# Altium footprint library Diodes.PcbLib: 13 footprints
Each footprint in its own frame and in the unit in brackets; x right, y up, seen from the top. Pads: shape width x height; smd on the part's side, far side on the other; paste and mask are expansions set on the pad; w line width, h text height; cw(c..) or ccw(c..) is an arc to the next point about the centre after c.
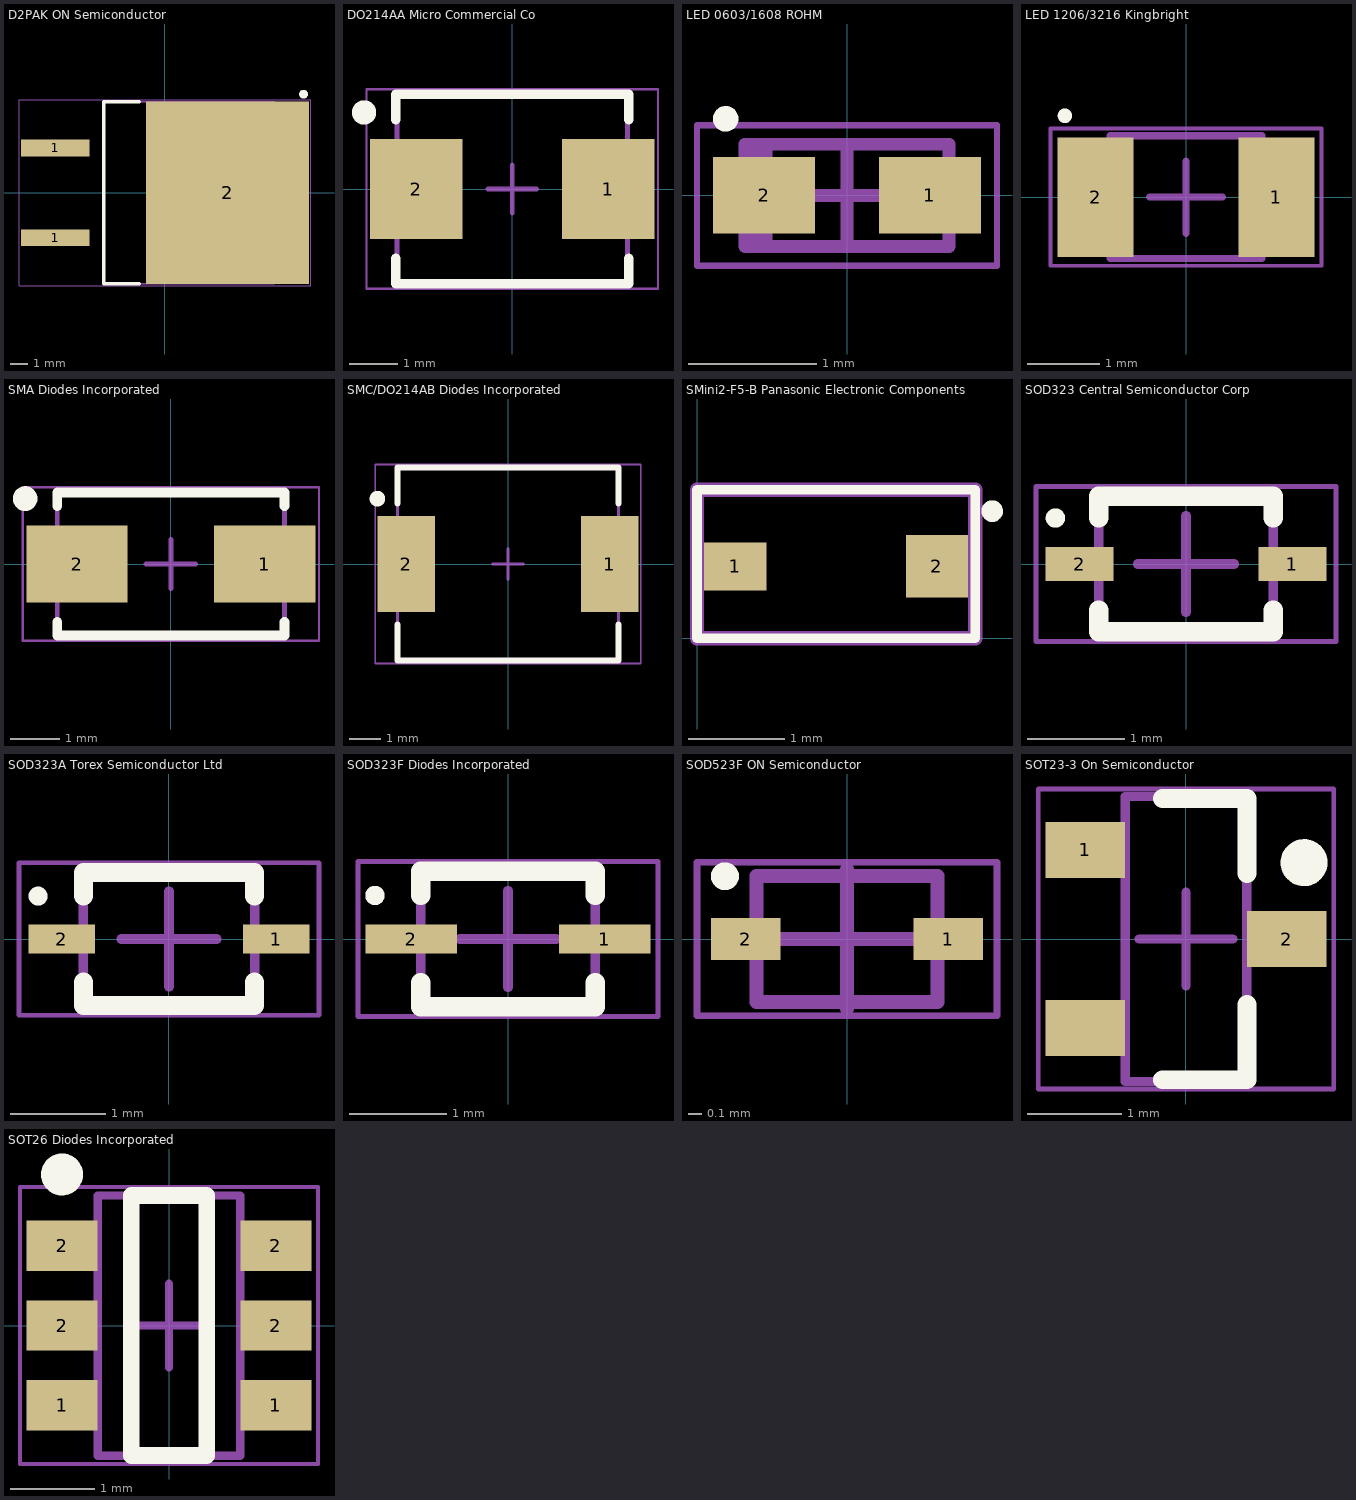
[diagram p0: the footprints below, top view; thin cyan lines are the x and y axes]

## D2PAK ON Semiconductor [mm] "D2-PAK, 3-Pads, Body 7.93x8.51mm (max), IPC High Density"
height 4.83
pads (3):
  rect 3.9x0.95 smd: 1(-6.2,-2.54) 1(-6.2,2.54)
  rect 9.2x10.35 smd: 2(3.55,0)
Top Overlay:
  circle w0.25: c7.85,5.575 r0.125
  lines w0.2: -1.45,-5.15 -3.45,-5.15 -3.45,5.15 -1.45,5.15
Mechanical 13:
  lines w0.1: -3.45,-5.15 6.2,-5.15 6.2,5.15 -3.45,5.15 -3.45,-5.15
Mechanical 15:
  lines w0.05: -8.25,-5.275 8.25,-5.275 8.25,5.275 -8.25,5.275 -8.25,-5.275
  lines w0.1: -0.5,0 0.5,0 ; 0,-0.5 0,0.5
  text "'.Designator'" at -8.025,-0.275 h1
3D body: height 4.83, standoff 0, extent -3.45,-5.15 6.2,5.15

## DO214AA Micro Commercial Co [mm] "SODFL, 2-Leads, Body 3.62x5.33mm, IPC High Density"
height 2.41
pads (2):
  rect 1.9x2.05 smd: 1(1.975,0) 2(-1.975,0)
Top Overlay:
  circle w0.25: c-3.05,1.575 r0.125
  lines w0.2: -2.4,-1.425 -2.4,-1.95 2.4,-1.95 2.4,-1.425 ; -2.4,1.425 -2.4,1.95 2.4,1.95 2.4,1.425
Mechanical 13:
  lines w0.1: -2.375,-1.97 -2.375,1.97 2.375,1.97 2.375,-1.97 -2.375,-1.97
Mechanical 15:
  lines w0.05: -3,-2.05 -3,2.05 3,2.05 3,-2.05 -3,-2.05
  lines w0.1: -0.5,0 0.5,0 ; 0,-0.5 0,0.5
  text "'.Designator'" at -1.125,1.275 h0.5
3D body: height 2.41, standoff 0, extent -2.375,-1.97 2.375,1.97

## LED 0603/1608 ROHM [mm] "Molded Diode, 2-Leads, Body 1.60x0.80mm, IPC High Density"
height 0.55
pads (2):
  rect 0.8x0.6 smd: 1(0.65,0) 2(-0.65,0)
Top Overlay:
  circle w0.1: c-0.95,0.6 r0.05
Mechanical 13:
  rectangle: -0.8,-0.4 -0.585,0.4
  lines w0.1: -0.8,-0.4 0.8,-0.4 0.8,0.4 -0.8,0.4 -0.8,-0.4
Mechanical 15:
  lines w0.05: -1.175,-0.55 1.175,-0.55 1.175,0.55 -1.175,0.55 -1.175,-0.55
  lines w0.1: -0.4,0 0.4,0 ; 0,-0.4 0,0.4
  text "'.Designator'" at -0.675,0.385 h0.2
3D body: height 0.55, standoff 0, extent -0.8,-0.4 0.8,0.4

## LED 1206/3216 Kingbright [mm] "SODFL, 2-Leads, Body 1.60x3.20mm, IPC High Density"
height 0.85
pads (2):
  rect 1.05x1.65 smd: 1(1.25,0) 2(-1.25,0)
Top Overlay:
  circle w0.1: c-1.675,1.125 r0.05
Mechanical 13:
  lines w0.1: -1.05,-0.85 -1.05,0.85 1.05,0.85 1.05,-0.85 -1.05,-0.85
Mechanical 15:
  lines w0.05: -1.875,-0.95 -1.875,0.95 1.875,0.95 1.875,-0.95 -1.875,-0.95
  lines w0.1: -0.5,0 0.5,0 ; 0,-0.5 0,0.5
  text "'.Designator'" at -0.6,0.575 h0.3
3D body: height 0.85, standoff 0, extent -1.05,-0.85 1.05,0.85

## SMA Diodes Incorporated [mm] "SODFL, 2-Leads, Body 2.60x5.19mm, IPC High Density"
height 2.4
pads (2):
  rect 2.05x1.55 smd: 1(1.9,0) 2(-1.9,0)
Top Overlay:
  circle w0.25: c-2.95,1.325 r0.125
  lines w0.2: -2.3,-1.175 -2.3,-1.45 2.3,-1.45 2.3,-1.175 ; -2.3,1.175 -2.3,1.45 2.3,1.45 2.3,1.175
Mechanical 13:
  lines w0.1: -2.3,-1.46 2.3,-1.46 2.3,1.46 -2.3,1.46 -2.3,-1.46
Mechanical 15:
  lines w0.05: -3,-1.55 3,-1.55 3,1.55 -3,1.55 -3,-1.55
  lines w0.1: -0.5,0 0.5,0 ; 0,-0.5 0,0.5
  text "'.Designator'" at -1.075,0.95 h0.5
3D body: height 2.4, standoff 0, extent -2.3,-1.46 2.3,1.46

## SMC/DO214AB Diodes Incorporated [mm] "SODFL, 2-Leads, Body 5.90x7.94mm, IPC High Density"
height 2.5
pads (2):
  rect 1.85x3.1 smd: 1(3.275,0) 2(-3.275,0)
Top Overlay:
  circle w0.25: c-4.2,2.1 r0.125
  lines w0.2: -3.55,-1.95 -3.55,-3.1 3.55,-3.1 3.55,-1.95 ; -3.55,1.95 -3.55,3.1 3.55,3.1 3.55,1.95
Mechanical 13:
  lines w0.1: -3.555,-3.11 -3.555,3.11 3.555,3.11 3.555,-3.11 -3.555,-3.11
Mechanical 15:
  lines w0.05: -4.275,-3.2 -4.275,3.2 4.275,3.2 4.275,-3.2 -4.275,-3.2
  lines w0.1: -0.5,0 0.5,0 ; 0,-0.5 0,0.5
  text "'.Designator'" at -3.225,1.725 h1.5
3D body: height 2.5, standoff 0, extent -3.555,-3.11 3.555,3.11

## SMini2-F5-B Panasonic Electronic Components [mm]
pads (2):
  rect 0.65x0.5 smd: 1(0.4,0.75)
  rect 0.65x0.65 smd: 2(2.5,0.75)
Top Overlay:
  lines w0.1: 0,0 0,1.55 2.9,1.55 2.9,0 0,0
  lines w0.125: 3.125,1.321 cw(c3.075,1.325) 3.125,1.325
Mechanical 15:
  lines w0.15: 0,0 0,1.55 2.9,1.55 2.9,0 0,0
  text "'.Designator'" at 0.875,0.775 h0.2

## SOD323 Central Semiconductor Corp [mm] "SODFL, 2-Leads, Body 1.25x2.50mm, IPC High Density"
height 1
pads (2):
  rect 0.7x0.35 smd: 1(1.1,0) 2(-1.1,0)
Top Overlay:
  circle w0.1: c-1.35,0.475 r0.05
  lines w0.2: -0.9,-0.475 -0.9,-0.7 0.9,-0.7 0.9,-0.475 ; -0.9,0.475 -0.9,0.7 0.9,0.7 0.9,0.475
Mechanical 13:
  lines w0.1: -0.9,-0.675 -0.9,0.675 0.9,0.675 0.9,-0.675 -0.9,-0.675
Mechanical 15:
  lines w0.05: -1.55,-0.8 -1.55,0.8 1.55,0.8 1.55,-0.8 -1.55,-0.8
  lines w0.1: -0.5,0 0.5,0 ; 0,-0.5 0,0.5
  text "'.Designator'" at -0.725,0.35 h0.2
3D body: height 1, standoff 0, extent -0.9,-0.675 0.9,0.675

## SOD323A Torex Semiconductor Ltd [mm] "SODFL, 2-Leads, Body 1.30x2.60mm, IPC High Density"
height 1
pads (2):
  rect 0.7x0.3 smd: 1(1.125,0) 2(-1.125,0)
Top Overlay:
  circle w0.1: c-1.375,0.45 r0.05
  lines w0.2: -0.9,-0.45 -0.9,-0.7 0.9,-0.7 0.9,-0.45 ; -0.9,0.45 -0.9,0.7 0.9,0.7 0.9,0.45
Mechanical 13:
  lines w0.1: -0.9,-0.7 0.9,-0.7 0.9,0.7 -0.9,0.7 -0.9,-0.7
Mechanical 15:
  lines w0.05: -1.575,-0.8 1.575,-0.8 1.575,0.8 -1.575,0.8 -1.575,-0.8
  lines w0.1: -0.5,0 0.5,0 ; 0,-0.5 0,0.5
  text "'.Designator'" at -0.725,0.3 h0.3
3D body: height 1, standoff 0, extent -0.9,-0.7 0.9,0.7

## SOD323F Diodes Incorporated [mm] "SODFL, 2-Leads, Body 1.25x2.50mm, IPC High Density"
height 0.75
pads (2):
  rect 0.95x0.3 smd: 1(1,0) 2(-1,0)
Top Overlay:
  circle w0.1: c-1.375,0.45 r0.05
  lines w0.2: -0.9,-0.45 -0.9,-0.7 0.9,-0.7 0.9,-0.45 ; -0.9,0.45 -0.9,0.7 0.9,0.7 0.9,0.45
Mechanical 13:
  lines w0.1: -0.9,-0.675 -0.9,0.675 0.9,0.675 0.9,-0.675 -0.9,-0.675
Mechanical 15:
  lines w0.05: -1.55,-0.8 -1.55,0.8 1.55,0.8 1.55,-0.8 -1.55,-0.8
  lines w0.1: -0.5,0 0.5,0 ; 0,-0.5 0,0.5
  text "'.Designator'" at -0.75,0.35 h0.2
3D body: height 0.75, standoff 0, extent -0.9,-0.675 0.9,0.675

## SOD523F ON Semiconductor [mm] "SODFL, 2-Leads, Body 0.80x1.60mm, IPC High Density"
height 0.7
pads (2):
  rect 0.5x0.3 smd: 1(0.725,0) 2(-0.725,0)
Top Overlay:
  circle w0.1: c-0.875,0.45 r0.05
Mechanical 13:
  lines w0.1: -0.65,-0.45 -0.65,0.45 0.65,0.45 0.65,-0.45 -0.65,-0.45
Mechanical 15:
  lines w0.05: -1.075,-0.55 -1.075,0.55 1.075,0.55 1.075,-0.55 -1.075,-0.55
  lines w0.1: -0.5,0 0.5,0 ; 0,-0.5 0,0.5
  text "'.Designator'" at -0.35,0.175 h0.3
3D body: height 0.7, standoff 0, extent -0.65,-0.45 0.65,0.45

## SOT23-3 On Semiconductor [mm] "SOT23, 3-Leads, Body 2.92x2.37mm, Pitch 0.95mm, IPC High Density"
height 1.11
pads (3):
  rect 0.85x0.6 smd: 1(-1.075,0.95) 2(1.075,0) ""(-1.075,-0.95)
Top Overlay:
  circle w0.25: c1.26,0.815 r0.125
  lines w0.2: -0.25,-1.5 0.65,-1.5 0.65,-0.7 ; -0.25,1.5 0.65,1.5 0.65,0.7
Mechanical 13:
  lines w0.1: -0.65,-1.52 -0.65,1.52 0.65,1.52 0.65,-1.52 -0.65,-1.52
Mechanical 15:
  lines w0.05: -1.575,-1.6 -1.575,1.6 1.575,1.6 1.575,-1.6 -1.575,-1.6
  lines w0.1: -0.5,0 0.5,0 ; 0,-0.5 0,0.5
  text "'.Designator'" at -0.49,0.765 h0.2
3D body: height 1.11, standoff 0.1, extent -0.65,-1.52 0.65,1.52

## SOT26 Diodes Incorporated [mm] "SOT23, 6-Leads, Body 3.00x2.85mm, Pitch 0.95mm, IPC High Density"
height 1.4
pads (6):
  rect 0.85x0.6 smd: 1(-1.275,-0.95) 1(1.275,-0.95) 2(-1.275,0) 2(-1.275,0.95) 2(1.275,0) 2(1.275,0.95)
Top Overlay:
  circle w0.25: c-1.275,1.8 r0.125
  lines w0.2: -0.45,-1.55 -0.45,1.55 0.45,1.55 0.45,-1.55 -0.45,-1.55
Mechanical 13:
  lines w0.1: -0.85,-1.55 0.85,-1.55 0.85,1.55 -0.85,1.55 -0.85,-1.55
Mechanical 15:
  lines w0.05: -1.775,-1.65 1.775,-1.65 1.775,1.65 -1.775,1.65 -1.775,-1.65
  lines w0.1: -0.5,0 0.5,0 ; 0,-0.5 0,0.5
  text "'.Designator'" at -0.1,1.4 h0.3
3D body: height 1.4, standoff 0.1, extent -0.85,-1.55 0.85,1.55